# Altium schematic symbol library LM5116MH.SchLib: 1 symbol
Pins are listed as number, name and electrical type; pins without a type are passive.

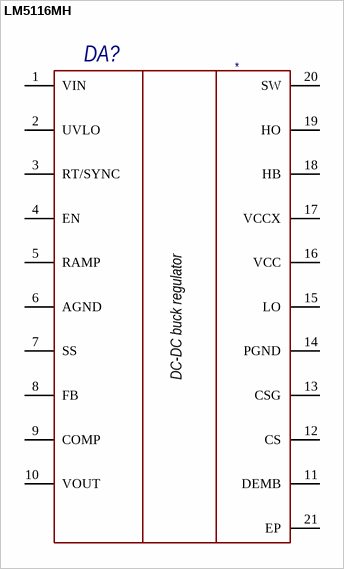
[diagram p0: symbol LM5116MH]

## LM5116MH
designator DA?
Manufacturer_Part_Number: LM5116MH/NOPB
pins: 1 VIN, 2 UVLO, 3 RT/SYNC, 4 EN, 5 RAMP, 6 AGND, 7 SS, 8 FB, 9 COMP, 10 VOUT, 11 DEMB, 12 CS, 13 CSG, 14 PGND, 15 LO, 16 VCC, 17 VCCX, 18 HB, 19 HO, 20 SW, 21 EP
text: DC-DC buck regulator